# EAGLE library part 614105150621 (library WR-USB)
WR-USB Mini/Micro Connectors Characteristics Mini and Micro form factors, ideal for space-constrained designs Pin configuration: 5 pins for USB 2.0 / 10 pins for USB 3.x Designed for high cycle durability UL, TID listing for USB standards Applications Mobile and handheld devices Wearables and portable accessories Embedded systems and IoT modules Details see: www.we-online.com/en/components/products/INPUT_OUTPUT_WR_USB_STANDARD Updated by Ella 2026-07-03 2026 (C) Würth Elektronik
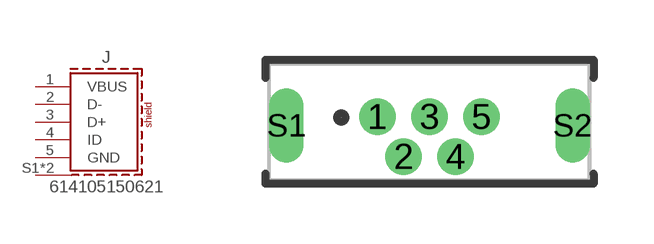
[diagram p33: symbol with the pads of 614105150621; footprint 614105150621]

Designator prefix J

## 614105150621 (APPLICATION: Micro USB 2.0; DATASHEET: https://www.we-online.com/redexpert/spec/614105150621?ae; GERDER: Receptacle; INTERFACE-TYPE: Type AB; IR: 1.8 A; MOUNT: THT; PACKAGING: Tape and Reel; PART-NUMBER: 614105150621; PINS: 5pcs; TYPE: Vertical; VALUE: 614105150621; WORKING-VOLTAGE: 30 V (AC))  [614105150621]
1  VBUS  pas
2  D-  pas
3  D+  pas
4  ID  pas
5  GND  pas
S1  SHIELD  pas
S2  SHIELD  pas

## Footprint 614105150621 (pad centres in mm)
WR-USB Mini/Micro Connectors Micro USB 2.0, Type AB, Vertical THT, 5Pins
drill 0.4 pad 0.61: 1 -1.3,0.125; 2 -0.65,-0.875; 3 0,0.125; 4 0.65,-0.875; 5 1.3,0.125
drill 0.35 pad 0.8 slot 1.35 rotated 90: S1 -3.575,-0.095; S2 3.575,-0.095